# Altium footprint library Module.PcbLib: 3 footprints
Each footprint in its own frame and in the unit in brackets; x right, y up, seen from the top. Pads: shape width x height; smd on the part's side, far side on the other; paste and mask are expansions set on the pad; w line width, h text height; cw(c..) or ccw(c..) is an arc to the next point about the centre after c.
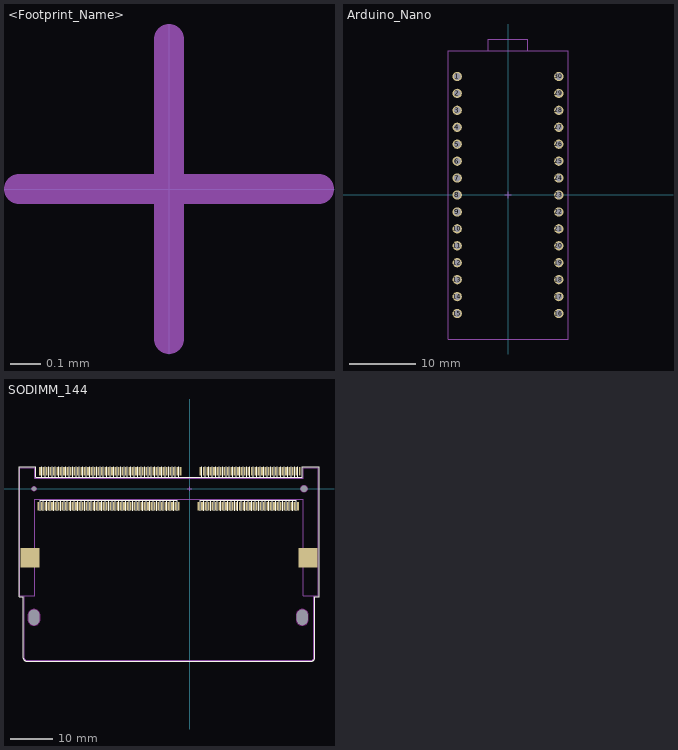
[diagram p0: the footprints below, top view; thin cyan lines are the x and y axes]

## <Footprint_Name> [mm] "<Package_Name>, <Number_of_pins>, <Pitch_in_mm>"
height 2.5
ReperDotTop:
  lines w0.1: -0.5,0 0.5,0 ; 0,-0.5 0,0.5
AssemblyOutlineTop:
  text "'.Designator'" at 0,0 h2.5

## Arduino_Nano [mm] "<Package_Name>, <Number_of_pins>, <Pitch_in_mm>"
height 2.5
pads (30):
  round 1.4 hole 1 unplated mask+0.1: 1(-7.62,17.78) 2(-7.62,15.24) 3(-7.62,12.7) 4(-7.62,10.16) 5(-7.62,7.62) 6(-7.62,5.08) 7(-7.62,2.54) 8(-7.62,0) 9(-7.62,-2.54) 10(-7.62,-5.08) 11(-7.62,-7.62) 12(-7.62,-10.16) 13(-7.62,-12.7) 14(-7.62,-15.24) 15(-7.62,-17.78) 16(7.62,-17.78) 17(7.62,-15.24) 18(7.62,-12.7) 19(7.62,-10.16) 20(7.62,-7.62) 21(7.62,-5.08) 22(7.62,-2.54) 23(7.62,0) 24(7.62,2.54) 25(7.62,5.08) 26(7.62,7.62) 27(7.62,10.16) 28(7.62,12.7) 29(7.62,15.24) 30(7.62,17.78)
ReperDotTop:
  lines w0.1: -0.5,0 0.5,0 ; 0,-0.5 0,0.5
AssemblyOutlineTop:
  lines w0.12: -3,21.6 -3,23.4 3,23.4 3,21.6 ; -9,-21.6 9,-21.6 9,21.6 -9,21.6 -9,-21.6
  text "'.Designator'" at 0,0 h2.5
3D body "User Library-PBS-05.step": height 8.45, standoff -3.15, extent 6.35,-19.05 8.89,-6.35
3D body "User Library-PBS-05.step": height 8.45, standoff -3.15, extent 6.35,-6.35 8.89,6.35
3D body "User Library-PBS-05.step": height 8.45, standoff -3.15, extent 6.35,6.35 8.89,19.05
3D body "User Library-PBS-05.step": height 8.45, standoff -3.15, extent -8.89,-19.05 -6.35,-6.35
3D body "User Library-PBS-05.step": height 8.45, standoff -3.15, extent -8.89,-6.35 -6.35,6.35
3D body "User Library-PBS-05.step": height 8.45, standoff -3.15, extent -8.89,6.35 -6.35,19.05

## SODIMM_144 [mm] "SODIMM 144 pin, Surface Mount"
height 0.5
pads (154):
  rect 0.4x2 smd mask+0.1: 1(25.7,4.1) 2(25.3,-4.1) 3(24.9,4.1) 4(24.5,-4.1) 5(24.1,4.1) 6(23.7,-4.1) 7(23.3,4.1) 8(22.9,-4.1) 9(22.5,4.1) 10(22.1,-4.1) 11(21.7,4.1) 12(21.3,-4.1) 13(20.9,4.1) 14(20.5,-4.1) 15(20.1,4.1) 16(19.7,-4.1) 17(19.3,4.1) 18(18.9,-4.1) 19(18.5,4.1) 20(18.1,-4.1) 21(17.7,4.1) 22(17.3,-4.1) 23(16.9,4.1) 24(16.5,-4.1) 25(16.1,4.1) 26(15.7,-4.1) 27(15.3,4.1) 28(14.9,-4.1) 29(14.5,4.1) 30(14.1,-4.1) 31(13.7,4.1) 32(13.3,-4.1) 33(12.9,4.1) 34(12.5,-4.1) 35(12.1,4.1) 36(11.7,-4.1) 37(11.3,4.1) 38(10.9,-4.1) 39(10.5,4.1) 40(10.1,-4.1) 41(9.7,4.1) 42(9.3,-4.1) 43(8.9,4.1) 44(8.5,-4.1) 45(8.1,4.1) 46(7.7,-4.1) 47(7.3,4.1) 48(6.9,-4.1) 49(6.5,4.1) 50(6.1,-4.1) 51(5.7,4.1) 52(5.3,-4.1) 53(4.9,4.1) 54(4.5,-4.1) 55(4.1,4.1) 56(3.7,-4.1) 57(3.3,4.1) 58(2.9,-4.1) 59(2.5,4.1) 60(2.1,-4.1) 61(-2.1,4.1) 62(-2.5,-4.1) 63(-2.9,4.1) 64(-3.3,-4.1) 65(-3.7,4.1) 66(-4.1,-4.1) 67(-4.5,4.1) 68(-4.9,-4.1) 69(-5.3,4.1) 70(-5.7,-4.1) 71(-6.1,4.1) 72(-6.5,-4.1) 73(-6.9,4.1) 74(-7.3,-4.1) 75(-7.7,4.1) 76(-8.1,-4.1) 77(-8.5,4.1) 78(-8.9,-4.1) 79(-9.3,4.1) 80(-9.7,-4.1) 81(-10.1,4.1) 82(-10.5,-4.1) 83(-10.9,4.1) 84(-11.3,-4.1) 85(-11.7,4.1) 86(-12.1,-4.1) 87(-12.5,4.1) 88(-12.9,-4.1) 89(-13.3,4.1) 90(-13.7,-4.1) 91(-14.1,4.1) 92(-14.5,-4.1) 93(-14.9,4.1) 94(-15.3,-4.1) 95(-15.7,4.1) 96(-16.1,-4.1) 97(-16.5,4.1) 98(-16.9,-4.1) 99(-17.3,4.1) 100(-17.7,-4.1) 101(-18.1,4.1) 102(-18.5,-4.1) 103(-18.9,4.1) 104(-19.3,-4.1) 105(-19.7,4.1) 106(-20.1,-4.1) 107(-20.5,4.1) 108(-20.9,-4.1) 109(-21.3,4.1) 110(-21.7,-4.1) 111(-22.1,4.1) 112(-22.5,-4.1) 113(-22.9,4.1) 114(-23.3,-4.1) 115(-23.7,4.1) 116(-24.1,-4.1) 117(-24.5,4.1) 118(-24.9,-4.1) 119(-25.3,4.1) 120(-25.7,-4.1) 121(-26.1,4.1) 122(-26.5,-4.1) 123(-26.9,4.1) 124(-27.3,-4.1) 125(-27.7,4.1) 126(-28.1,-4.1) 127(-28.5,4.1) 128(-28.9,-4.1) 129(-29.3,4.1) 130(-29.7,-4.1) 131(-30.1,4.1) 132(-30.5,-4.1) 133(-30.9,4.1) 134(-31.3,-4.1) 135(-31.7,4.1) 136(-32.1,-4.1) 137(-32.5,4.1) 138(-32.9,-4.1) 139(-33.3,4.1) 140(-33.7,-4.1) 141(-34.1,4.1) 142(-34.5,-4.1) 143(-34.9,4.1) 144(-35.3,-4.1)
  round 0 hole 2.5 slot 3.6 at 90 deg unplated: HOLE(-36.3,-30) HOLE(26.3,-30)
  round 0 hole 1.1 unplated mask+0: HOLE(-36.3,0)
  round 0 hole 1.6 unplated mask+0: HOLE(26.7,0)
  oval 3x4.1 on Keep-Out mask+0.102: Keep-Out(-36.3,-30) Keep-Out(26.3,-30)
  round 1.3 on Keep-Out: Keep-Out(-36.3,0)
  round 1.8 on Keep-Out: Keep-Out(26.7,0)
  rect 4.4x4.6 smd mask+0.1: Support(-37.2,-16.1) Support(27.6,-16.1)
Top Overlay:
  drawing of 156 lines, arcs and shapes, not listed
ReperDotTop:
  lines w0.1: -0.5,0 0.5,0 ; 0,-0.5 0,0.5
AssemblyOutlineTop:
  lines w0.12: -38.6,-25 -38.6,-39.5 ccw(c-38.1,-39.5) -38.1,-40 28.5,-40 ; 29,-25 29,-39.5 cw(c28.5,-39.5) 28.5,-40 ; 28.5,-40 28.5,-40 ; -39.6,-25 -36.1,-25 -36.1,-2.5 26.5,-2.5 26.5,-25 30,-25 30,4.9 26.5,4.9 26.5,2.5 -36.1,2.5 -36.1,4.9 -39.6,4.9 -39.6,-25
  text "'.Designator'" at 0,0 h2.5
3D body "33b8451_390112-1.stp": height 5.57, standoff -0.73, extent -39.65,-25 30.05,4.9